# EAGLE library part TLC2543 (library TLC2543)
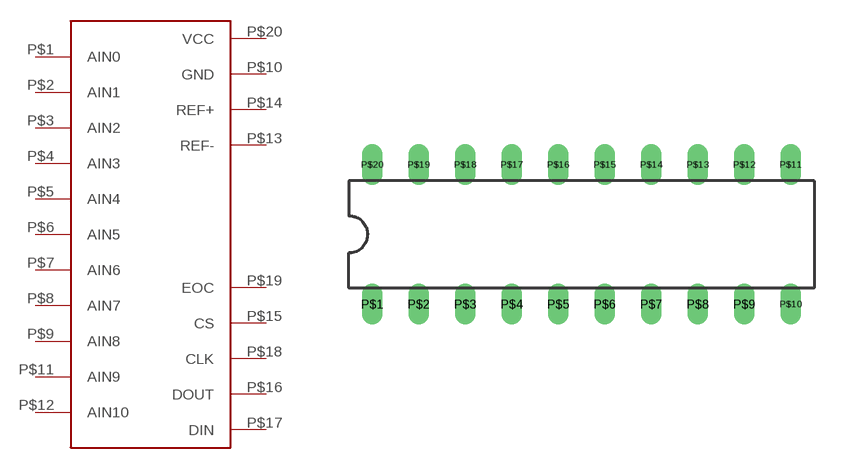
[diagram p0: symbol with the pads of TLC2543; footprint TLC2543]

Designator prefix -

## TLC2543  [TLC2543]
P$1  AIN0
P$2  AIN1
P$3  AIN2
P$4  AIN3
P$5  AIN4
P$6  AIN5
P$7  AIN6
P$8  AIN7
P$9  AIN8
P$10  GND
P$11  AIN9
P$12  AIN10
P$13  REF-
P$14  REF+
P$15  CS
P$16  DOUT
P$17  DIN
P$18  CLK
P$19  EOC
P$20  VCC

## Footprint TLC2543 (pad centres in mm)
drill 0.6 long: P$1 -8.89,-3.81; P$2 -6.35,-3.81; P$3 -3.81,-3.81; P$4 -1.27,-3.81; P$5 1.27,-3.81; P$6 3.81,-3.81; P$7 6.35,-3.81; P$8 8.89,-3.81; P$9 11.43,-3.81; P$10 13.97,-3.81; P$11 13.97,3.81; P$12 11.43,3.81; P$13 8.89,3.81; P$14 6.35,3.81; P$15 3.81,3.81; P$16 1.27,3.81; P$17 -1.27,3.81; P$18 -3.81,3.81; P$19 -6.35,3.81; P$20 -8.89,3.81